# EAGLE library part TPS2112/3A- (library LoganSmith-Digital_IC)
2-input power MUX, datasheet <http://www.ti.com/lit/ds/symlink/tps2112a.pdf>
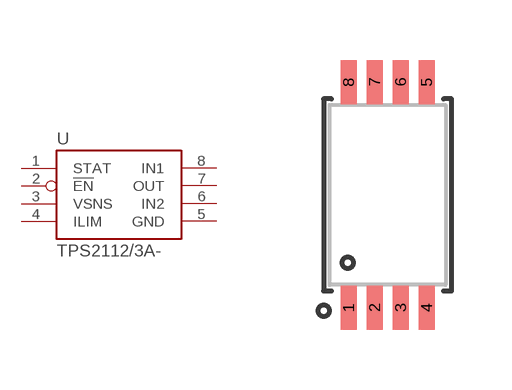
[diagram p3: symbol with the pads of TSSOP-8; footprint TSSOP-8]

Designator prefix U

## TPS2112/3A-2 (DESC: 2-input power MUX Vin 2.8V-5.5V 750mA; DIGIKEY_OC: 296-34595-5-ND; HEIGHT: 1.2mm; MFR: Texas Instruments; MPN: TPS2112APW; TEMP: -40C to 85C), TPS2112/3A-3  [TSSOP-8]
1  STAT
2  !EN
3  VSNS
4  ILIM
5  GND
6  IN2
7  OUT
8  IN1

## Footprint TSSOP-8 (pad centres in mm)
TSSOP-8 Package based on footprint <http://www.vishay.com/docs/72611/72611.pdf> and package <http://www.ti.com/lit/ml/mtss001d/mtss001d.pdf>.
smd 0.4 x 1.1: 1 -0.975,-2.82; 2 -0.325,-2.82; 3 0.325,-2.82; 4 0.975,-2.82; 5 0.975,2.82; 6 0.325,2.82; 7 -0.325,2.82; 8 -0.975,2.82